# Altium footprint library all_kalex_Library.PcbLib: 234 footprints (part 3 of 15)
Each footprint in its own frame and in the unit in brackets; x right, y up, seen from the top. Pads: shape width x height; smd on the part's side, far side on the other; paste and mask are expansions set on the pad; w line width, h text height; cw(c..) or ccw(c..) is an arc to the next point about the centre after c.
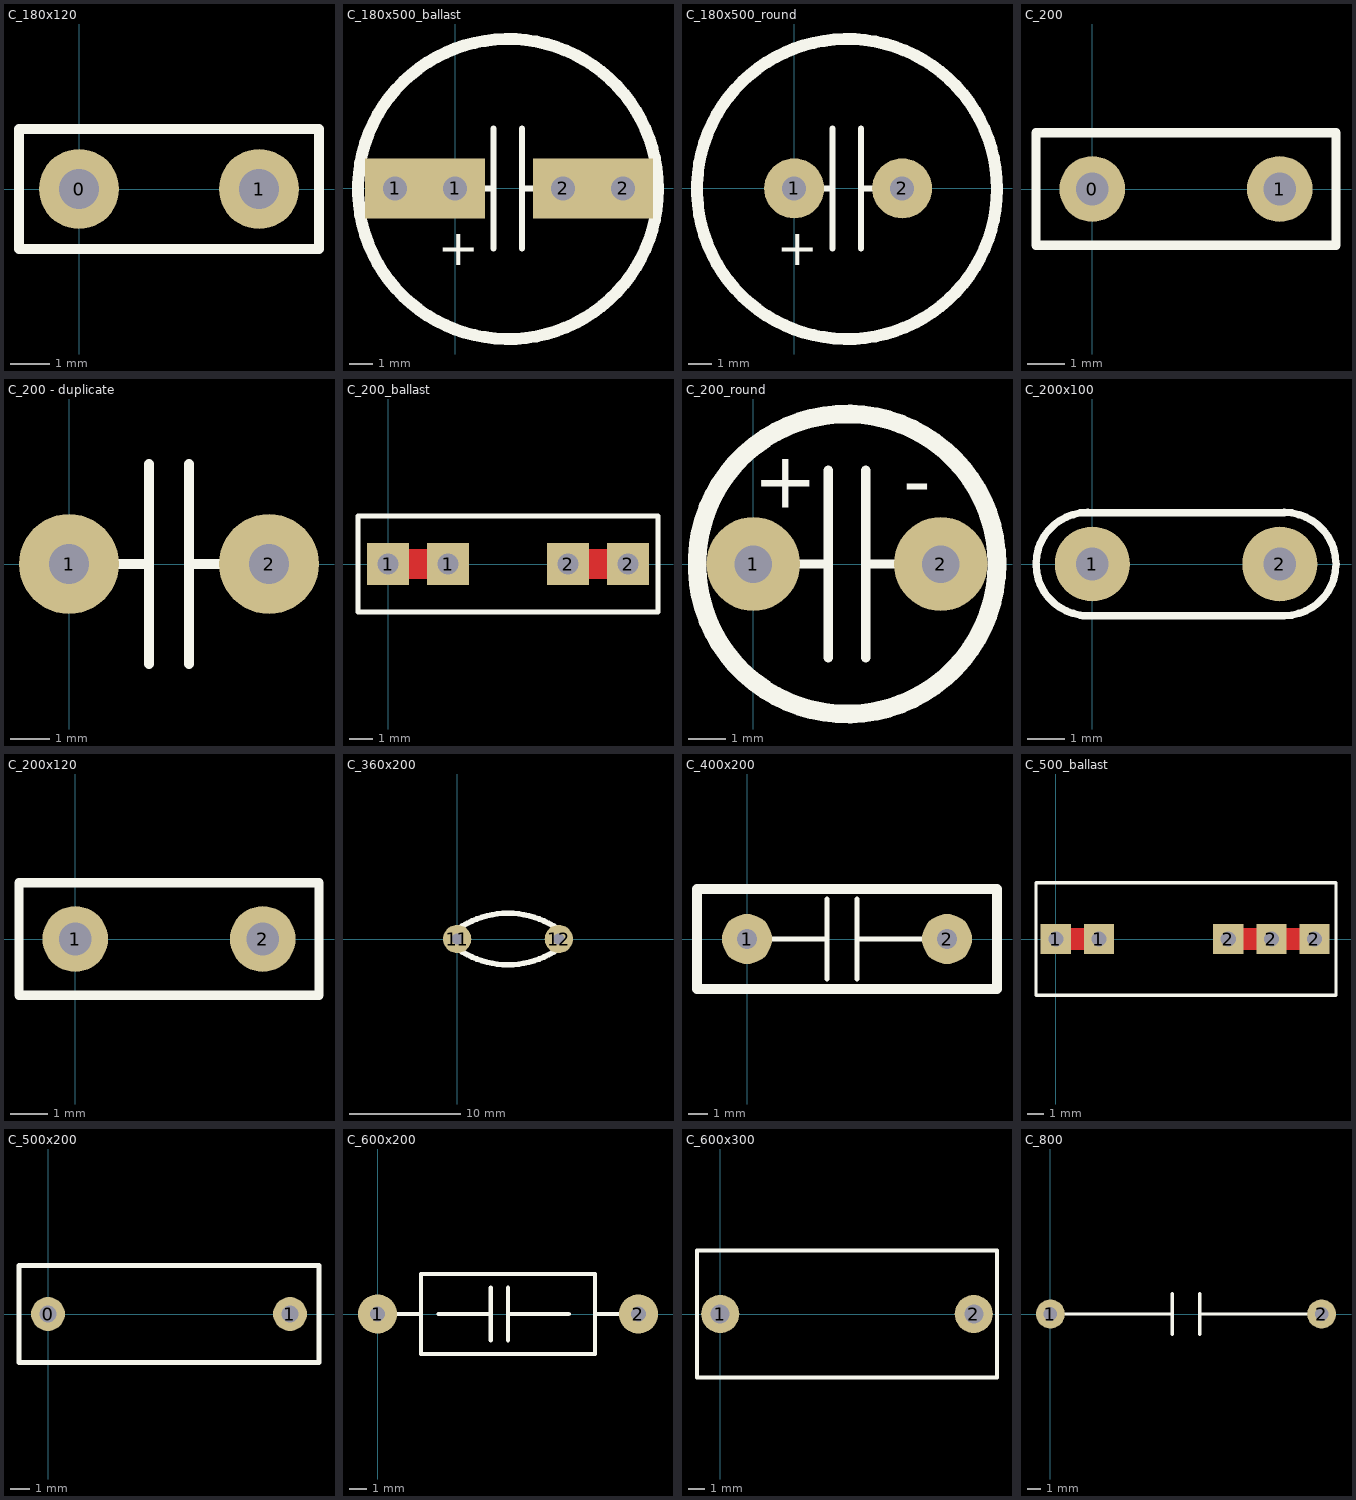
[diagram p2: the footprints below, top view; thin cyan lines are the x and y axes]

## C_180x120 [mil]
pads (2):
  round 80 hole 40: 0(0,0) 1(180,0)
Top Overlay:
  lines w10: -60,-60 240,-60 240,60 -60,60 -60,-60

## C_180x500_ballast [mil]
pads (4):
  rect 100x100 hole 40: 1(-100,0) 1(0,0) 2(180,0) 2(280,0)
Top Overlay:
  circle w20: c88,-1 r250
  lines w10: 0,0 63,0 ; 64,-100 64,100 ; 111,-100 111,100 ; 111,0 180,0
  text "+" at -29,-128 h60

## C_180x500_round [mil]
pads (2):
  round 100 hole 40: 1(0,0) 2(180,0)
Top Overlay:
  circle w20: c88,-1 r250
  lines w10: 0,0 63,0 ; 64,-100 64,100 ; 111,-100 111,100 ; 111,0 180,0
  text "+" at -29,-128 h60

## C_200 [mil]
pads (2):
  round 70 hole 35: 0(0,0)
  round 70 hole 35 unplated: 1(200,0)
Top Overlay:
  lines w10: -60,-60 -60,60 260,60 260,-60 -60,-60

## C_200 - duplicate [mil]
pads (2):
  round 100 hole 40: 1(0,0) 2(200,0)
Top Overlay:
  lines w10: 0,0 80,0 ; 80,-100 80,100 ; 120,-100 120,100 ; 120,0 200,0

## C_200_ballast [mil]
pads (4):
  rect 70x70 hole 35: 1(0,0) 1(100,0) 2(300,0) 2(400,0)
Top Layer:
  lines w50: 0,0 100,0 ; 300,0 400,0
Top Overlay:
  lines w8: -50,-80 450,-80 450,80 -50,80 -50,-80

## C_200_round [mil]
pads (2):
  round 100 hole 40: 1(0,0) 2(200,0)
Top Overlay:
  circle w20: c100,0 r160
  lines w10: 0,0 80,0 ; 80,-100 80,100 ; 120,-100 120,100 ; 120,0 200,0
  text "+" at 0,60 h60
  text "-" at 160,60 h60

## C_200x100 [mil]
pads (2):
  round 80 hole 35: 1(0,0) 2(200,0)
Top Overlay:
  lines w8: -10,-55 205,-55 ccw(c205,0) 205,55 ; -10,54.85 205,54.85 ; -5,-55 cw(c-5,0) -5,55

## C_200x120 [mil]
pads (2):
  round 70 hole 35: 1(0,0) 2(200,0)
Top Overlay:
  lines w10: -60,-60 260,-60 260,60 -60,60 -60,-60

## C_360x200 [mil]
pads (2):
  round 100 hole 40: 11(0,0) 12(360,0)
Top Overlay:
  lines w20: -40,0 cw(c180,-220) 400,0 cw(c180,220) -40,0

## C_400x200 [mil]
pads (2):
  round 100 hole 40: 1(0,0) 2(400,0)
Top Overlay:
  lines w10: 0,0 160,0 ; 160,-80 160,80 ; 220,-80 220,80 ; 220,0 400,0
  lines w20: -100,-100 500,-100 500,100 -100,100 -100,-100

## C_500_ballast [mil]
pads (5):
  rect 70x70 hole 35: 1(0,0) 1(100,0) 2(400,0) 2(500,0) 2(600,0)
Top Layer:
  lines w50: 0,0 100,0 ; 400,0 600,0
Top Overlay:
  lines w8: -46,-130 -46,130 650,130 650,-130 -46,-130

## C_500x200 [mil]
pads (2):
  round 70 hole 35: 0(0,0) 1(500,0)
Top Overlay:
  lines w10: -60,-100 -60,100 560,100 560,-100 -60,-100

## C_600x200 [mil]
pads (2):
  round 90 hole 35: 1(0,0) 2(600,0)
Top Overlay:
  lines w10: 0,0 100,0 ; 140,0 260,0 ; 260,-60 260,60 ; 300,-60 300,60 ; 300,0 440,0 ; 500,0 600,0 ; 100,0 100,92 500,92 500,-92 100,-92 100,0

## C_600x300 [mil]
pads (2):
  round 90 hole 45: 1(0,0) 2(600,0)
Top Overlay:
  lines w10: -55,-150 -55,150 655,150 655,-150 -55,-150

## C_800 [mil]
pads (2):
  round 85 hole 40: 1(0,0) 2(800,0)
Top Overlay:
  lines w10: 0,0 360,0 360,60 360,-60 ; 440,-60 440,60 440,0 800,0